# EAGLE library part FH35C-11S-0.3SHW_50_ (library FH35C-11S-0.3SHW_50_)
FFC & FPC Connectors 11P BCKFLP DUAL-SIDE FPC 0.3mm P 0.9mm H Source: Datasheet <http://www.mouser.com/datasheet/2/185/FH35C_catalog-939278.pdf>
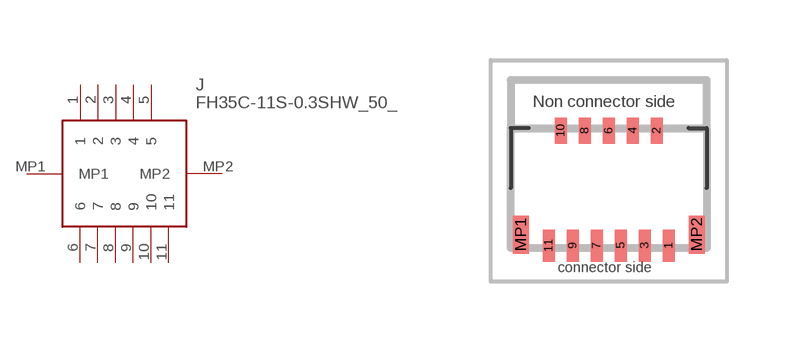
[diagram p0: symbol with the pads of FH35C11S03SHW50; footprint FH35C11S03SHW50]

Designator prefix J

## FH35C-11S-0.3SHW_50_ (DESCRIPTION: FFC & FPC Connectors 11P BCKFLP DUAL-SIDE FPC 0.3mm P 0.9mm H; HEIGHT: 1.8mm; MANUFACTURER_NAME: Hirose; MANUFACTURER_PART_NUMBER: FH35C-11S-0.3SHW(50); MOUSER_PART_NUMBER: 798-FH35C11S03SHW50; MOUSER_PRICE-STOCK: https://www.mouser.com/Search/Refine.aspx?Keyword=798-FH35C11S03SHW50)  [FH35C11S03SHW50]
1  1
2  2
3  3
4  4
5  5
6  6
7  7
8  8
9  9
10  10
11  11
MP1  MP1
MP2  MP2

## Footprint FH35C11S03SHW50 (pad centres in mm)
FH35C-11S-0.3SHW(50)-2
smd 0.3 x 0.8: 1 1.5,-1.869; 3 0.9,-1.869; 5 0.3,-1.869; 7 -0.3,-1.869; 9 -0.9,-1.869; 11 -1.5,-1.869
smd 0.3 x 0.65: 2 1.2,1.006; 4 0.6,1.006; 6 0,1.006; 8 -0.6,1.006; 10 -1.2,1.006
smd 0.4 x 0.95: MP1 -2.2,-1.594; MP2 2.2,-1.594